# Altium schematic symbol library ERA-2AEB4990X.SchLib: 1 symbol
Pins are listed as number, name and electrical type; pins without a type are passive.

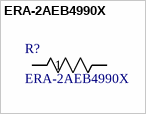
[diagram p0: symbol ERA-2AEB4990X]

## ERA-2AEB4990X
designator R?
Description; Manufacturer_Name: Panasonic; Copyright: Copyright (C) 2025 Ultra Librarian. All rights reserved.; Manufacturer_Part_Number: ERA-2AEB4990X
footprint 0402_PAN
pins: 1, 2